# Altium schematic symbol library ECS-2520MVQ-260-CN-TR.SchLib: 1 symbol
Pins are listed as number, name and electrical type; pins without a type are passive.

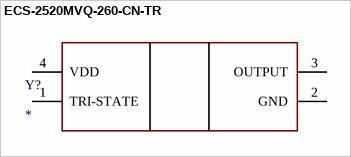
[diagram p0: symbol ECS-2520MVQ-260-CN-TR]

## ECS-2520MVQ-260-CN-TR
designator Y?
Crystal or Oscillator; Manufacturer_Name: ECS; Manufacturer_Part_Number: ECS-2520MVQ-260-CN-TR; Datasheet Link: https://ecsxtal.com/store/pdf/ECS-2520MVQ.pdf; Height: 0.9mm; Mouser Part Number: 520-2520MVQ-260-CN-T; Mouser Price/Stock: https://www.mouser.co.uk/ProductDetail/ECS/ECS-2520MVQ-260-CN-TR?qs=GedFDFLaBXEqI4jsvhzkaw%3D%3D; Arrow Part Number: ECS-2520MVQ-260-CN-TR; Arrow Price/Stock: https://www.arrow.com/en/products/ecs-2520mvq-260-cn-tr/ecs-international?region=nac
footprint ECS2520MVQ260CNTR
pins: 1 TRI-STATE, 2 GND, 3 OUTPUT, 4 VDD